# Altium schematic symbol library Companders.SchLib: 1 symbol
Pins are listed as number, name and electrical type; pins without a type are passive.

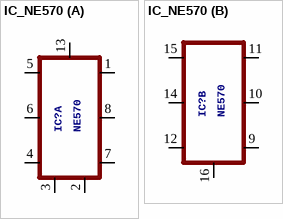
[diagram p0: symbol IC_NE570]

## IC_NE570
designator IC?, comment NE570
footprint DIL16
part A pins: 1, 2, 3, 4, 5, 6, 7, 8, 13
part B pins: 9, 10, 11, 12, 14, 15, 16